# Altium footprint library AHD Footprint Library.PcbLib: 57 footprints (part 4 of 4)
Each footprint in its own frame and in the unit in brackets; x right, y up, seen from the top. Pads: shape width x height; smd on the part's side, far side on the other; paste and mask are expansions set on the pad; w line width, h text height; cw(c..) or ccw(c..) is an arc to the next point about the centre after c.
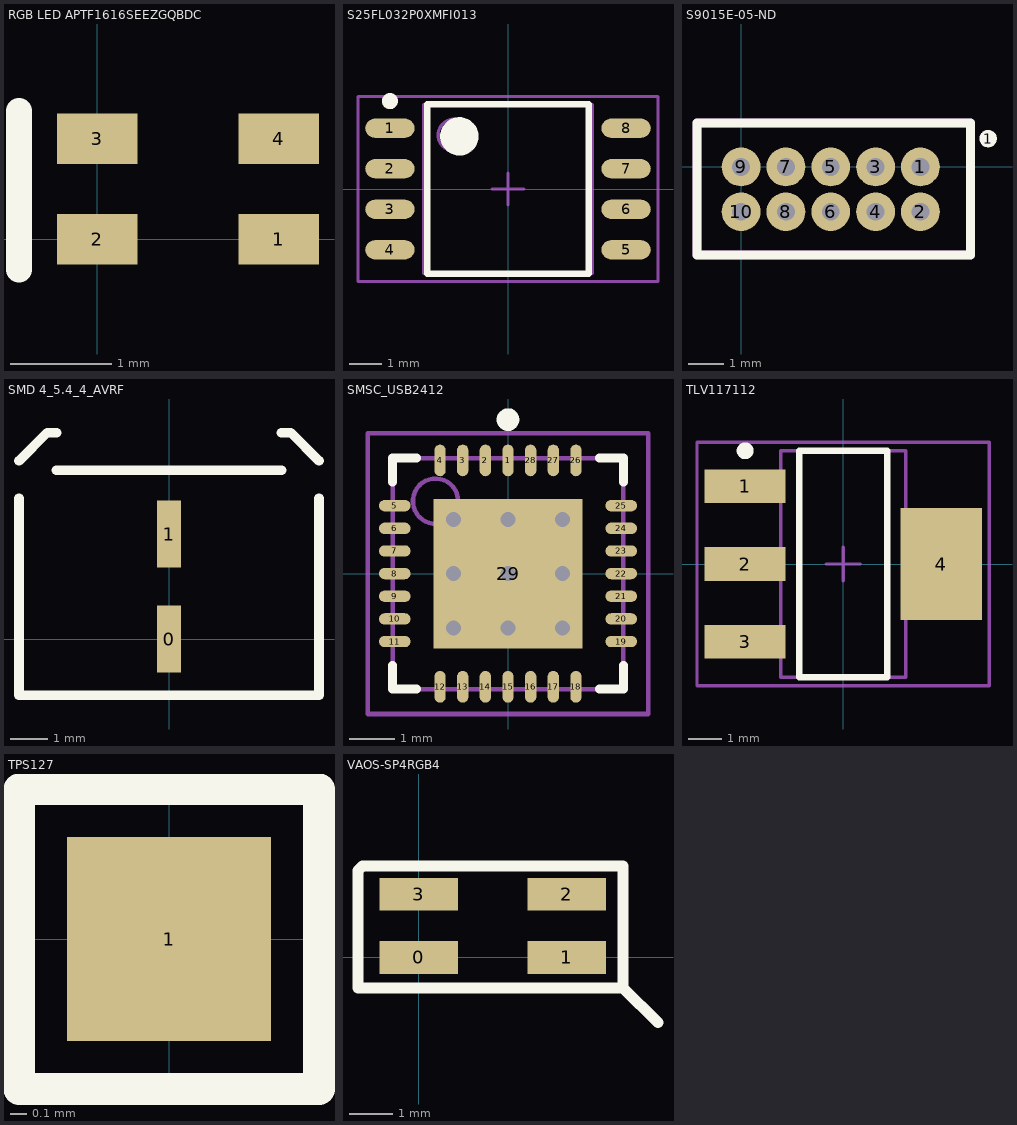
[diagram p3: the footprints below, top view; thin cyan lines are the x and y axes]

## RGB LED APTF1616SEEZGQBDC [mm] "RGB LED"
pads (4):
  rect 0.8x0.5 smd: 1(1.8,0) 2(0,0) 3(0,1) 4(1.8,1)
Top Overlay:
  lines w0.254: -0.775,-0.3 -0.775,1.275

## S25FL032P0XMFI013 [mm] "SOP, 8-Leads, Body 5.3x5.3mm (max), Pitch 1.27mm, IPC Medium Density"
height 2.159
pads (8):
  oval 1.55x0.6 smd: 1(-3.7,1.905) 2(-3.7,0.635) 3(-3.7,-0.635) 4(-3.7,-1.905) 5(3.7,-1.905) 6(3.7,-0.635) 7(3.7,0.635) 8(3.7,1.905)
Top Overlay:
  circle w0.6: c-1.525,1.65 r0.3
  circle w0.25: c-3.7,2.755 r0.125
  lines w0.2: -2.525,-2.65 2.525,-2.65 2.525,2.65 -2.525,2.65 -2.525,-2.65
Mechanical 13:
  circle w0.1: c-1.69,1.69 r0.5
  lines w0.1: -2.64,-2.64 2.64,-2.64 2.64,2.64 -2.64,2.64 -2.64,-2.64
Mechanical 15:
  lines w0.1: -0.5,0 0.5,0 ; 0,-0.5 0,0.5 ; -4.7,-2.9 4.7,-2.9 4.7,2.9 -4.7,2.9 -4.7,-2.9
3D body: height 2.16, standoff 0.05, extent -2.64,-2.64 2.64,2.64

## S9015E-05-ND [mm] "10 Pin Cortex JTAG Debug Header"
pads (11):
  round 1.1 hole 0.508: 1(5.08,0) 2(5.08,-1.27) 3(3.81,0) 4(3.81,-1.27) 5(2.54,0) 6(2.54,-1.27) 7(1.27,0) 8(1.27,-1.27) 9(0,0) 10(0,-1.27)
  round 0.5 on Top Overlay: 1(7,0.8)
Top Overlay:
  lines w0.254: -1.25,-2.5 -1.25,1.25 6.5,1.25 6.5,-2.5 -1.25,-2.5
Mechanical 13:
  lines w0.254: -1.25,-2.5 -1.25,1.25 6.5,1.25 6.5,-2.5 -1.25,-2.5

## SMD 4_5.4_4_AVRF [mm] "SMD Electrolytic"
height 4
pads (2):
  rect 0.65x1.8 smd: 0(0,0) 1(0,2.8)
Top Overlay:
  lines w0.254: -4,3.75 -4,-1.5 4,-1.5 4,3.75 ; -4,4.75 -3.25,5.5 -3,5.5 ; -3,4.5 3,4.5 ; 3,5.5 3.25,5.5 4,4.75

## SMSC_USB2412 [mm] "QFN, 28-Leads, Body 5.1x5.1mm (max), Pitch 0.50mm, IPC Medium Density"
height 1
pads (29):
  oval 0.25x0.7 smd: 1(0,2.5) 2(-0.5,2.5) 3(-1,2.5) 4(-1.5,2.5) 12(-1.5,-2.5) 13(-1,-2.5) 14(-0.5,-2.5) 15(0,-2.5) 16(0.5,-2.5) 17(1,-2.5) 18(1.5,-2.5) 26(1.5,2.5) 27(1,2.5) 28(0.5,2.5)
  oval 0.7x0.25 smd: 5(-2.5,1.5) 6(-2.5,1) 7(-2.5,0.5) 8(-2.5,0) 9(-2.5,-0.5) 10(-2.5,-1) 11(-2.5,-1.5) 19(2.5,-1.5) 20(2.5,-1) 21(2.5,-0.5) 22(2.5,0) 23(2.5,0.5) 24(2.5,1) 25(2.5,1.5)
  rect 3.3x3.3 smd: 29(0,0)
via 1.2,-1.2 diameter 0.66 hole 0.33
via 0,-1.2 diameter 0.66 hole 0.33
via -1.2,-1.2 diameter 0.66 hole 0.33
via 1.2,0 diameter 0.66 hole 0.33
via 0,0 diameter 0.66 hole 0.33
via -1.2,0 diameter 0.66 hole 0.33
via 1.2,1.2 diameter 0.66 hole 0.33
via 0,1.2 diameter 0.66 hole 0.33
via -1.2,1.2 diameter 0.66 hole 0.33
Top Overlay:
  circle w0.25: c0,3.4 r0.125
  lines w0.2: -2.55,-2.025 -2.55,-2.55 -2.025,-2.55 ; -2.55,2.025 -2.55,2.55 -2.025,2.55 ; 2.025,-2.55 2.55,-2.55 2.55,-2.025 ; 2.025,2.55 2.55,2.55 2.55,2.025
Mechanical 13:
  circle w0.1: c-1.6,1.6 r0.5
  lines w0.1: -2.55,-2.55 2.55,-2.55 2.55,2.55 -2.55,2.55 -2.55,-2.55
Mechanical 15:
  lines w0.1: -0.5,0 0.5,0 ; 0,-0.5 0,0.5 ; -3.1,-3.1 3.1,-3.1 3.1,3.1 -3.1,3.1 -3.1,-3.1
3D body: height 1, standoff 0.05, extent -2.55,-2.55 2.55,2.55

## TD_VLF3012S-74 [mm] "2.2uH Inductor for Switching DCDC"
height 1.5

## TLV117112 [mm] "SOT223, 4-Leads, Body 6.7x7.3mm (max), Pitch 2.30mm, IPC Medium Density"
height 1.8
pads (4):
  rect 2.4x1 smd: 1(-2.9,2.3) 2(-2.9,0) 3(-2.9,-2.3)
  rect 2.4x3.3 smd: 4(2.9,0)
Top Overlay:
  circle w0.25: c-2.9,3.35 r0.125
  lines w0.2: -1.3,-3.35 1.3,-3.35 1.3,3.35 -1.3,3.35 -1.3,-3.35
Mechanical 13:
  lines w0.1: -1.85,-3.35 1.85,-3.35 1.85,3.35 -1.85,3.35 -1.85,-3.35
Mechanical 15:
  lines w0.1: -0.5,0 0.5,0 ; 0,-0.5 0,0.5 ; -4.325,-3.6 4.325,-3.6 4.325,3.6 -4.325,3.6 -4.325,-3.6
3D body: height 1.8, standoff 0.02, extent -1.85,-3.35 1.85,3.35

## TPS127 [mm] "1.27 x  1.27mm SMD Test Point Area"
height 1.5
pads (1):
  rect 1.27x1.27 smd paste-1.27: 1(0,0)
Top Overlay:
  lines w0.2: -0.935,-0.935 -0.935,0.935 0.935,0.935 0.935,-0.935 -0.935,-0.935
Mechanical 14:
  lines w0.1: -0.935,-0.935 -0.935,0.935 0.935,0.935 0.935,-0.935 -0.935,-0.935

## VAOS-SP4RGB4 [mm]
pads (4):
  rect 1.8x0.75 smd: 0(0,0) 1(3.4,0) 2(3.4,1.45) 3(0,1.45)
Top Overlay:
  lines w0.254: 5.5,-1.5 4.7,-0.7 ; 4.7,-0.7 4.7,2.1 -1.3,2.1 -1.4,2 -1.4,-0.7 4.7,-0.7